# Altium integrated library ISSI SRAM Synchronous SRAM No-Wait(ZBT).IntLib: 1246 symbols (part 100 of 152)
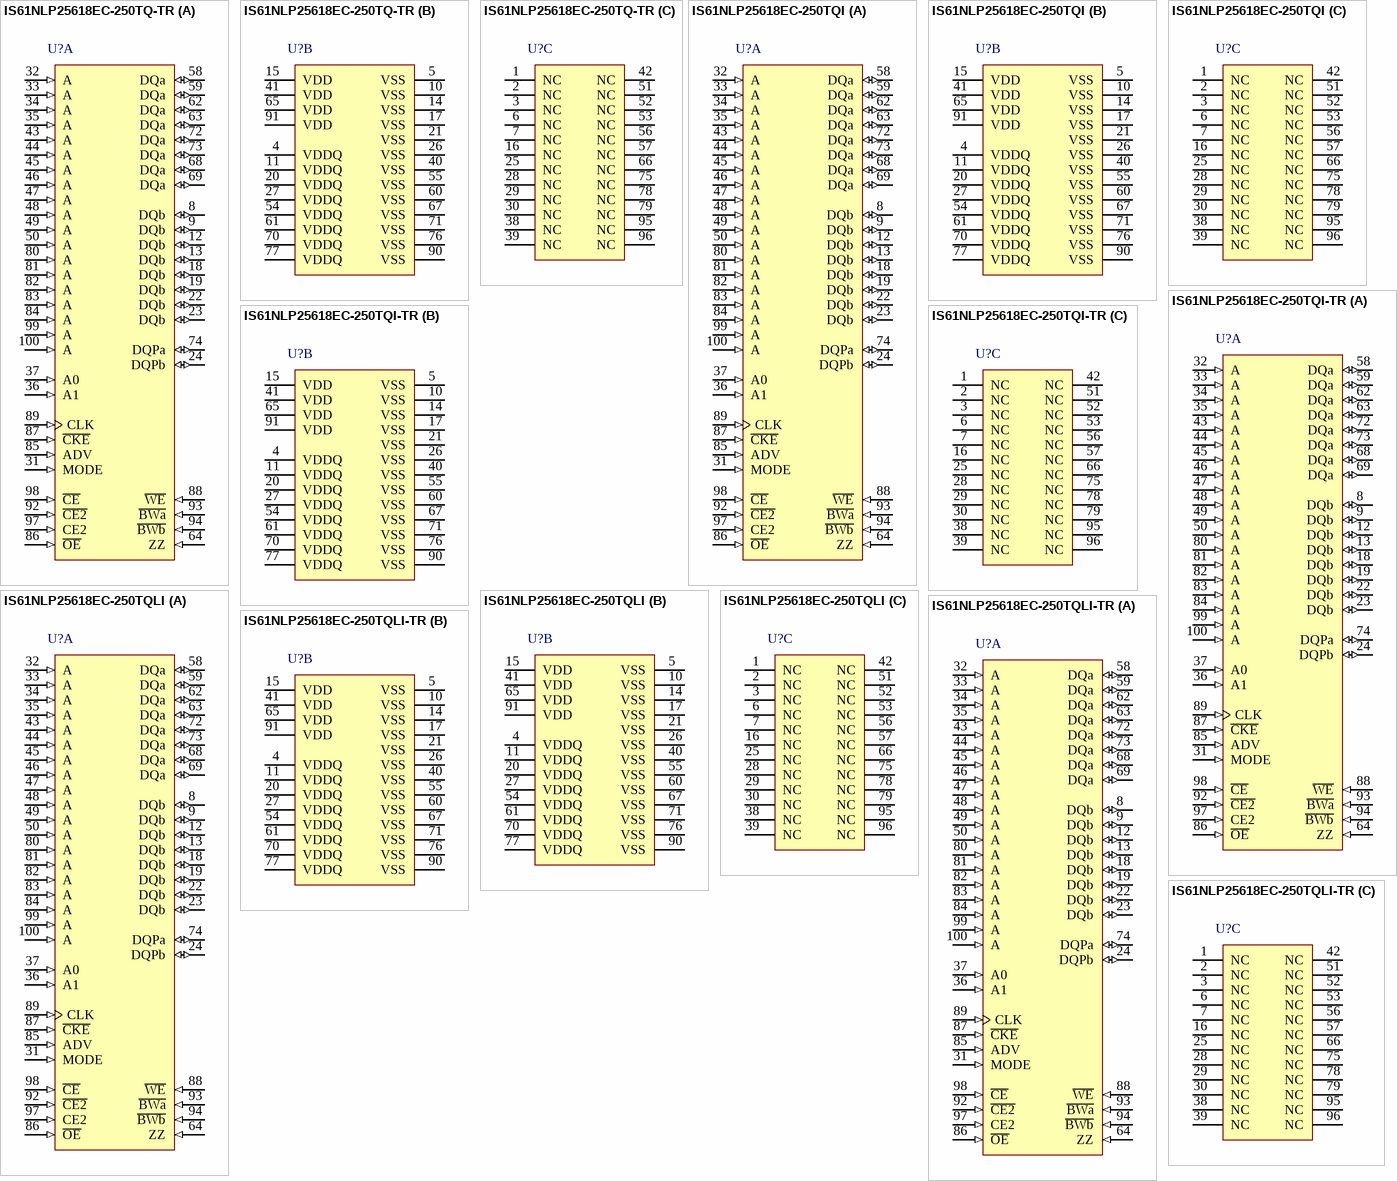
[diagram p288: symbols IS61NLP25618EC-250TQ-TR to IS61NLP25618EC-250TQLI-TR]

## IS61NLP25618EC-250TQ-TR
designator U?
4 M Pipeline 'No Wait' State Bus Synchronous SRAM with ECC, 256 K x 18, 0 to 70 degC, 100-Pin QFP (TQFP-100); Manufacturer: Integrated Silicon Solution Inc (ISSI); PartNumber: IS61NLP25618EC-250TQ-TR; Density: 4M; Packing: Tape & Reel; Vcc: 3.3 V; VccQ: 2.5 / 3.3 V; DatasheetVersion: Rev. A; PackageVersion: Rev. F, 09/2009; PackageReference: TQFP-100; PackageDescription: 100-Pin 20 x 14 mm LQFP, Pitch 0.65 mm; Organization: 256Kx18; Mounting Technology: Surface Mount; ComponentLink1Description: Manufacturer URL; ComponentLink1URL: http://www.issi.com/US/index.shtml; ComponentLink2Description: Datasheet; ComponentLink2URL: http://www.issi.com/WW/pdf/61-64NLP_NVP12832EC-12836EC-25618EC.pdf; ComponentLink3Description: Package Specification; ComponentLink3URL: http://www.issi.com/WW/pdf/61VPS_LPS25636A_51218A.pdf
footprint ISSI-TQFP-100-20000X14000DE_N (QFP, 100-Leads, Body 20x14mm, Pitch 0.65mm, IPC Medium Density)
part A pins: 8 DQb (io) "Synchronous Data Input/Output", 9 DQb (io) "Synchronous Data Input/Output", 12 DQb (io) "Synchronous Data Input/Output", 13 DQb (io) "Synchronous Data Input/Output", 18 DQb (io) "Synchronous Data Input/Output", 19 DQb (io) "Synchronous Data Input/Output", 22 DQb (io) "Synchronous Data Input/Output", 23 DQb (io) "Synchronous Data Input/Output", 24 DQPb (io) "Parity Data I/O", 31 MODE (in) "Burst Sequence Selection", 32 A (in) "Synchronous Address Input", 33 A (in) "Synchronous Address Input", 34 A (in) "Synchronous Address Input", 35 A (in) "Synchronous Address Input", 36 A1 (in) "Synchronous Address Input. These pins must tied to the two LSBs of the address bus.", 37 A0 (in) "Synchronous Address Input. These pins must tied to the two LSBs of the address bus.", 43 A (in) "Synchronous Address Input", 44 A (in) "Synchronous Address Input", 45 A (in) "Synchronous Address Input", 46 A (in) "Synchronous Address Input", 47 A (in) "Synchronous Address Input", 48 A (in) "Synchronous Address Input", 49 A (in) "Synchronous Address Input", 50 A (in) "Synchronous Address Input", 58 DQa (io) "Synchronous Data Input/Output", 59 DQa (io) "Synchronous Data Input/Output", 62 DQa (io) "Synchronous Data Input/Output", 63 DQa (io) "Synchronous Data Input/Output", 64 ZZ (in) "Snooze Enable", 68 DQa (io) "Synchronous Data Input/Output", 69 DQa (io) "Synchronous Data Input/Output", 72 DQa (io) "Synchronous Data Input/Output", 73 DQa (io) "Synchronous Data Input/Output", 74 DQPa (io) "Parity Data I/O", 80 A (in) "Synchronous Address Input", 81 A (in) "Synchronous Address Input", 82 A (in) "Synchronous Address Input", 83 A (in) "Synchronous Address Input", 84 A (in) "Synchronous Address Input", 85 ADV (in) "Synchronous Burst Address Advance", 86 ~{OE} (in) "Output Enable", 87 ~{CKE} (in) "Clock Enable", 88 ~{WE} (in) "Write Enable", 89 CLK (in) "Synchronous Clock", 92 ~{CE2} (in) "Synchronous Chip Enable", 93 ~{BWa} (in) "Synchronous Byte Write Enable", 94 ~{BWb} (in) "Synchronous Byte Write Enable", 97 CE2 (in) "Synchronous Chip Enable", 98 ~{CE} (in) "Synchronous Chip Enable", 99 A (in) "Synchronous Address Input", 100 A (in) "Synchronous Address Input"
part B pins: 4 VDDQ (power) "Isolated Output Buffer Supply: +3.3V/2.5V", 5 VSS (power), 10 VSS (power), 11 VDDQ (power) "Isolated Output Buffer Supply: +3.3V/2.5V", 14 VSS (power), 15 VDD (power) "+3.3V/2.5V Power Supply", 17 VSS (power), 20 VDDQ (power) "Isolated Output Buffer Supply: +3.3V/2.5V", 21 VSS (power), 26 VSS (power), 27 VDDQ (power) "Isolated Output Buffer Supply: +3.3V/2.5V", 40 VSS (power), 41 VDD (power) "+3.3V/2.5V Power Supply", 54 VDDQ (power) "Isolated Output Buffer Supply: +3.3V/2.5V", 55 VSS (power), 60 VSS (power), 61 VDDQ (power) "Isolated Output Buffer Supply: +3.3V/2.5V", 65 VDD (power) "+3.3V/2.5V Power Supply", 67 VSS (power), 70 VDDQ (power) "Isolated Output Buffer Supply: +3.3V/2.5V", 71 VSS (power), 76 VSS (power), 77 VDDQ (power) "Isolated Output Buffer Supply: +3.3V/2.5V", 90 VSS (power), 91 VDD (power) "+3.3V/2.5V Power Supply"
part C pins: 1 NC "Not Connected", 2 NC "Not Connected", 3 NC "Not Connected", 6 NC "Not Connected", 7 NC "Not Connected", 16 NC "Not Connected", 25 NC "Not Connected", 28 NC "Not Connected", 29 NC "Not Connected", 30 NC "Not Connected", 38 NC "Not Connected", 39 NC "Not Connected", 42 NC "Not Connected", 51 NC "Not Connected", 52 NC "Not Connected", 53 NC "Not Connected", 56 NC "Not Connected", 57 NC "Not Connected", 66 NC "Not Connected", 75 NC "Not Connected", 78 NC "Not Connected", 79 NC "Not Connected", 95 NC "Not Connected", 96 NC "Not Connected"

## IS61NLP25618EC-250TQI
designator U?
4 M Pipeline 'No Wait' State Bus Synchronous SRAM with ECC, 256 K x 18, -40 to 85 degC, 100-Pin QFP (TQFP-100); Manufacturer: Integrated Silicon Solution Inc (ISSI); PartNumber: IS61NLP25618EC-250TQI; Density: 4M; Packing: Tray / Tube; Vcc: 3.3 V; VccQ: 2.5 / 3.3 V; DatasheetVersion: Rev. A; PackageVersion: Rev. F, 09/2009; PackageReference: TQFP-100; PackageDescription: 100-Pin 20 x 14 mm LQFP, Pitch 0.65 mm; Organization: 256Kx18; Mounting Technology: Surface Mount; ComponentLink1Description: Manufacturer URL; ComponentLink1URL: http://www.issi.com/US/index.shtml; ComponentLink2Description: Datasheet; ComponentLink2URL: http://www.issi.com/WW/pdf/61-64NLP_NVP12832EC-12836EC-25618EC.pdf; ComponentLink3Description: Package Specification; ComponentLink3URL: http://www.issi.com/WW/pdf/61VPS_LPS25636A_51218A.pdf
footprint ISSI-TQFP-100-20000X14000DE_N (QFP, 100-Leads, Body 20x14mm, Pitch 0.65mm, IPC Medium Density)
part A pins: 8 DQb (io) "Synchronous Data Input/Output", 9 DQb (io) "Synchronous Data Input/Output", 12 DQb (io) "Synchronous Data Input/Output", 13 DQb (io) "Synchronous Data Input/Output", 18 DQb (io) "Synchronous Data Input/Output", 19 DQb (io) "Synchronous Data Input/Output", 22 DQb (io) "Synchronous Data Input/Output", 23 DQb (io) "Synchronous Data Input/Output", 24 DQPb (io) "Parity Data I/O", 31 MODE (in) "Burst Sequence Selection", 32 A (in) "Synchronous Address Input", 33 A (in) "Synchronous Address Input", 34 A (in) "Synchronous Address Input", 35 A (in) "Synchronous Address Input", 36 A1 (in) "Synchronous Address Input. These pins must tied to the two LSBs of the address bus.", 37 A0 (in) "Synchronous Address Input. These pins must tied to the two LSBs of the address bus.", 43 A (in) "Synchronous Address Input", 44 A (in) "Synchronous Address Input", 45 A (in) "Synchronous Address Input", 46 A (in) "Synchronous Address Input", 47 A (in) "Synchronous Address Input", 48 A (in) "Synchronous Address Input", 49 A (in) "Synchronous Address Input", 50 A (in) "Synchronous Address Input", 58 DQa (io) "Synchronous Data Input/Output", 59 DQa (io) "Synchronous Data Input/Output", 62 DQa (io) "Synchronous Data Input/Output", 63 DQa (io) "Synchronous Data Input/Output", 64 ZZ (in) "Snooze Enable", 68 DQa (io) "Synchronous Data Input/Output", 69 DQa (io) "Synchronous Data Input/Output", 72 DQa (io) "Synchronous Data Input/Output", 73 DQa (io) "Synchronous Data Input/Output", 74 DQPa (io) "Parity Data I/O", 80 A (in) "Synchronous Address Input", 81 A (in) "Synchronous Address Input", 82 A (in) "Synchronous Address Input", 83 A (in) "Synchronous Address Input", 84 A (in) "Synchronous Address Input", 85 ADV (in) "Synchronous Burst Address Advance", 86 ~{OE} (in) "Output Enable", 87 ~{CKE} (in) "Clock Enable", 88 ~{WE} (in) "Write Enable", 89 CLK (in) "Synchronous Clock", 92 ~{CE2} (in) "Synchronous Chip Enable", 93 ~{BWa} (in) "Synchronous Byte Write Enable", 94 ~{BWb} (in) "Synchronous Byte Write Enable", 97 CE2 (in) "Synchronous Chip Enable", 98 ~{CE} (in) "Synchronous Chip Enable", 99 A (in) "Synchronous Address Input", 100 A (in) "Synchronous Address Input"
part B pins: 4 VDDQ (power) "Isolated Output Buffer Supply: +3.3V/2.5V", 5 VSS (power), 10 VSS (power), 11 VDDQ (power) "Isolated Output Buffer Supply: +3.3V/2.5V", 14 VSS (power), 15 VDD (power) "+3.3V/2.5V Power Supply", 17 VSS (power), 20 VDDQ (power) "Isolated Output Buffer Supply: +3.3V/2.5V", 21 VSS (power), 26 VSS (power), 27 VDDQ (power) "Isolated Output Buffer Supply: +3.3V/2.5V", 40 VSS (power), 41 VDD (power) "+3.3V/2.5V Power Supply", 54 VDDQ (power) "Isolated Output Buffer Supply: +3.3V/2.5V", 55 VSS (power), 60 VSS (power), 61 VDDQ (power) "Isolated Output Buffer Supply: +3.3V/2.5V", 65 VDD (power) "+3.3V/2.5V Power Supply", 67 VSS (power), 70 VDDQ (power) "Isolated Output Buffer Supply: +3.3V/2.5V", 71 VSS (power), 76 VSS (power), 77 VDDQ (power) "Isolated Output Buffer Supply: +3.3V/2.5V", 90 VSS (power), 91 VDD (power) "+3.3V/2.5V Power Supply"
part C pins: 1 NC "Not Connected", 2 NC "Not Connected", 3 NC "Not Connected", 6 NC "Not Connected", 7 NC "Not Connected", 16 NC "Not Connected", 25 NC "Not Connected", 28 NC "Not Connected", 29 NC "Not Connected", 30 NC "Not Connected", 38 NC "Not Connected", 39 NC "Not Connected", 42 NC "Not Connected", 51 NC "Not Connected", 52 NC "Not Connected", 53 NC "Not Connected", 56 NC "Not Connected", 57 NC "Not Connected", 66 NC "Not Connected", 75 NC "Not Connected", 78 NC "Not Connected", 79 NC "Not Connected", 95 NC "Not Connected", 96 NC "Not Connected"

## IS61NLP25618EC-250TQI-TR
designator U?
4 M Pipeline 'No Wait' State Bus Synchronous SRAM with ECC, 256 K x 18, -40 to 85 degC, 100-Pin QFP (TQFP-100); Manufacturer: Integrated Silicon Solution Inc (ISSI); PartNumber: IS61NLP25618EC-250TQI-TR; Density: 4M; Packing: Tape & Reel; Vcc: 3.3 V; VccQ: 2.5 / 3.3 V; DatasheetVersion: Rev. A; PackageVersion: Rev. F, 09/2009; PackageReference: TQFP-100; PackageDescription: 100-Pin 20 x 14 mm LQFP, Pitch 0.65 mm; Organization: 256Kx18; Mounting Technology: Surface Mount; ComponentLink1Description: Manufacturer URL; ComponentLink1URL: http://www.issi.com/US/index.shtml; ComponentLink2Description: Datasheet; ComponentLink2URL: http://www.issi.com/WW/pdf/61-64NLP_NVP12832EC-12836EC-25618EC.pdf; ComponentLink3Description: Package Specification; ComponentLink3URL: http://www.issi.com/WW/pdf/61VPS_LPS25636A_51218A.pdf
footprint ISSI-TQFP-100-20000X14000DE_N (QFP, 100-Leads, Body 20x14mm, Pitch 0.65mm, IPC Medium Density)
part A pins: 8 DQb (io) "Synchronous Data Input/Output", 9 DQb (io) "Synchronous Data Input/Output", 12 DQb (io) "Synchronous Data Input/Output", 13 DQb (io) "Synchronous Data Input/Output", 18 DQb (io) "Synchronous Data Input/Output", 19 DQb (io) "Synchronous Data Input/Output", 22 DQb (io) "Synchronous Data Input/Output", 23 DQb (io) "Synchronous Data Input/Output", 24 DQPb (io) "Parity Data I/O", 31 MODE (in) "Burst Sequence Selection", 32 A (in) "Synchronous Address Input", 33 A (in) "Synchronous Address Input", 34 A (in) "Synchronous Address Input", 35 A (in) "Synchronous Address Input", 36 A1 (in) "Synchronous Address Input. These pins must tied to the two LSBs of the address bus.", 37 A0 (in) "Synchronous Address Input. These pins must tied to the two LSBs of the address bus.", 43 A (in) "Synchronous Address Input", 44 A (in) "Synchronous Address Input", 45 A (in) "Synchronous Address Input", 46 A (in) "Synchronous Address Input", 47 A (in) "Synchronous Address Input", 48 A (in) "Synchronous Address Input", 49 A (in) "Synchronous Address Input", 50 A (in) "Synchronous Address Input", 58 DQa (io) "Synchronous Data Input/Output", 59 DQa (io) "Synchronous Data Input/Output", 62 DQa (io) "Synchronous Data Input/Output", 63 DQa (io) "Synchronous Data Input/Output", 64 ZZ (in) "Snooze Enable", 68 DQa (io) "Synchronous Data Input/Output", 69 DQa (io) "Synchronous Data Input/Output", 72 DQa (io) "Synchronous Data Input/Output", 73 DQa (io) "Synchronous Data Input/Output", 74 DQPa (io) "Parity Data I/O", 80 A (in) "Synchronous Address Input", 81 A (in) "Synchronous Address Input", 82 A (in) "Synchronous Address Input", 83 A (in) "Synchronous Address Input", 84 A (in) "Synchronous Address Input", 85 ADV (in) "Synchronous Burst Address Advance", 86 ~{OE} (in) "Output Enable", 87 ~{CKE} (in) "Clock Enable", 88 ~{WE} (in) "Write Enable", 89 CLK (in) "Synchronous Clock", 92 ~{CE2} (in) "Synchronous Chip Enable", 93 ~{BWa} (in) "Synchronous Byte Write Enable", 94 ~{BWb} (in) "Synchronous Byte Write Enable", 97 CE2 (in) "Synchronous Chip Enable", 98 ~{CE} (in) "Synchronous Chip Enable", 99 A (in) "Synchronous Address Input", 100 A (in) "Synchronous Address Input"
part B pins: 4 VDDQ (power) "Isolated Output Buffer Supply: +3.3V/2.5V", 5 VSS (power), 10 VSS (power), 11 VDDQ (power) "Isolated Output Buffer Supply: +3.3V/2.5V", 14 VSS (power), 15 VDD (power) "+3.3V/2.5V Power Supply", 17 VSS (power), 20 VDDQ (power) "Isolated Output Buffer Supply: +3.3V/2.5V", 21 VSS (power), 26 VSS (power), 27 VDDQ (power) "Isolated Output Buffer Supply: +3.3V/2.5V", 40 VSS (power), 41 VDD (power) "+3.3V/2.5V Power Supply", 54 VDDQ (power) "Isolated Output Buffer Supply: +3.3V/2.5V", 55 VSS (power), 60 VSS (power), 61 VDDQ (power) "Isolated Output Buffer Supply: +3.3V/2.5V", 65 VDD (power) "+3.3V/2.5V Power Supply", 67 VSS (power), 70 VDDQ (power) "Isolated Output Buffer Supply: +3.3V/2.5V", 71 VSS (power), 76 VSS (power), 77 VDDQ (power) "Isolated Output Buffer Supply: +3.3V/2.5V", 90 VSS (power), 91 VDD (power) "+3.3V/2.5V Power Supply"
part C pins: 1 NC "Not Connected", 2 NC "Not Connected", 3 NC "Not Connected", 6 NC "Not Connected", 7 NC "Not Connected", 16 NC "Not Connected", 25 NC "Not Connected", 28 NC "Not Connected", 29 NC "Not Connected", 30 NC "Not Connected", 38 NC "Not Connected", 39 NC "Not Connected", 42 NC "Not Connected", 51 NC "Not Connected", 52 NC "Not Connected", 53 NC "Not Connected", 56 NC "Not Connected", 57 NC "Not Connected", 66 NC "Not Connected", 75 NC "Not Connected", 78 NC "Not Connected", 79 NC "Not Connected", 95 NC "Not Connected", 96 NC "Not Connected"

## IS61NLP25618EC-250TQLI
designator U?
4 M Pipeline 'No Wait' State Bus Synchronous SRAM with ECC, 256 K x 18, -40 to 85 degC, 100-Pin QFP (TQFP-100), Pb-Free; Manufacturer: Integrated Silicon Solution Inc (ISSI); PartNumber: IS61NLP25618EC-250TQLI; Density: 4M; Packing: Tray / Tube; Vcc: 3.3 V; VccQ: 2.5 / 3.3 V; DatasheetVersion: Rev. A; PackageVersion: Rev. F, 09/2009; PackageReference: TQFP-100; PackageDescription: 100-Pin 20 x 14 mm LQFP, Pitch 0.65 mm; Organization: 256Kx18; RoHS: Pb-Free; Mounting Technology: Surface Mount; ComponentLink1Description: Manufacturer URL; ComponentLink1URL: http://www.issi.com/US/index.shtml; ComponentLink2Description: Datasheet; ComponentLink2URL: http://www.issi.com/WW/pdf/61-64NLP_NVP12832EC-12836EC-25618EC.pdf; ComponentLink3Description: Package Specification; ComponentLink3URL: http://www.issi.com/WW/pdf/61VPS_LPS25636A_51218A.pdf
footprint ISSI-TQFP-100-20000X14000DE_N (QFP, 100-Leads, Body 20x14mm, Pitch 0.65mm, IPC Medium Density)
part A pins: 8 DQb (io) "Synchronous Data Input/Output", 9 DQb (io) "Synchronous Data Input/Output", 12 DQb (io) "Synchronous Data Input/Output", 13 DQb (io) "Synchronous Data Input/Output", 18 DQb (io) "Synchronous Data Input/Output", 19 DQb (io) "Synchronous Data Input/Output", 22 DQb (io) "Synchronous Data Input/Output", 23 DQb (io) "Synchronous Data Input/Output", 24 DQPb (io) "Parity Data I/O", 31 MODE (in) "Burst Sequence Selection", 32 A (in) "Synchronous Address Input", 33 A (in) "Synchronous Address Input", 34 A (in) "Synchronous Address Input", 35 A (in) "Synchronous Address Input", 36 A1 (in) "Synchronous Address Input. These pins must tied to the two LSBs of the address bus.", 37 A0 (in) "Synchronous Address Input. These pins must tied to the two LSBs of the address bus.", 43 A (in) "Synchronous Address Input", 44 A (in) "Synchronous Address Input", 45 A (in) "Synchronous Address Input", 46 A (in) "Synchronous Address Input", 47 A (in) "Synchronous Address Input", 48 A (in) "Synchronous Address Input", 49 A (in) "Synchronous Address Input", 50 A (in) "Synchronous Address Input", 58 DQa (io) "Synchronous Data Input/Output", 59 DQa (io) "Synchronous Data Input/Output", 62 DQa (io) "Synchronous Data Input/Output", 63 DQa (io) "Synchronous Data Input/Output", 64 ZZ (in) "Snooze Enable", 68 DQa (io) "Synchronous Data Input/Output", 69 DQa (io) "Synchronous Data Input/Output", 72 DQa (io) "Synchronous Data Input/Output", 73 DQa (io) "Synchronous Data Input/Output", 74 DQPa (io) "Parity Data I/O", 80 A (in) "Synchronous Address Input", 81 A (in) "Synchronous Address Input", 82 A (in) "Synchronous Address Input", 83 A (in) "Synchronous Address Input", 84 A (in) "Synchronous Address Input", 85 ADV (in) "Synchronous Burst Address Advance", 86 ~{OE} (in) "Output Enable", 87 ~{CKE} (in) "Clock Enable", 88 ~{WE} (in) "Write Enable", 89 CLK (in) "Synchronous Clock", 92 ~{CE2} (in) "Synchronous Chip Enable", 93 ~{BWa} (in) "Synchronous Byte Write Enable", 94 ~{BWb} (in) "Synchronous Byte Write Enable", 97 CE2 (in) "Synchronous Chip Enable", 98 ~{CE} (in) "Synchronous Chip Enable", 99 A (in) "Synchronous Address Input", 100 A (in) "Synchronous Address Input"
part B pins: 4 VDDQ (power) "Isolated Output Buffer Supply: +3.3V/2.5V", 5 VSS (power), 10 VSS (power), 11 VDDQ (power) "Isolated Output Buffer Supply: +3.3V/2.5V", 14 VSS (power), 15 VDD (power) "+3.3V/2.5V Power Supply", 17 VSS (power), 20 VDDQ (power) "Isolated Output Buffer Supply: +3.3V/2.5V", 21 VSS (power), 26 VSS (power), 27 VDDQ (power) "Isolated Output Buffer Supply: +3.3V/2.5V", 40 VSS (power), 41 VDD (power) "+3.3V/2.5V Power Supply", 54 VDDQ (power) "Isolated Output Buffer Supply: +3.3V/2.5V", 55 VSS (power), 60 VSS (power), 61 VDDQ (power) "Isolated Output Buffer Supply: +3.3V/2.5V", 65 VDD (power) "+3.3V/2.5V Power Supply", 67 VSS (power), 70 VDDQ (power) "Isolated Output Buffer Supply: +3.3V/2.5V", 71 VSS (power), 76 VSS (power), 77 VDDQ (power) "Isolated Output Buffer Supply: +3.3V/2.5V", 90 VSS (power), 91 VDD (power) "+3.3V/2.5V Power Supply"
part C pins: 1 NC "Not Connected", 2 NC "Not Connected", 3 NC "Not Connected", 6 NC "Not Connected", 7 NC "Not Connected", 16 NC "Not Connected", 25 NC "Not Connected", 28 NC "Not Connected", 29 NC "Not Connected", 30 NC "Not Connected", 38 NC "Not Connected", 39 NC "Not Connected", 42 NC "Not Connected", 51 NC "Not Connected", 52 NC "Not Connected", 53 NC "Not Connected", 56 NC "Not Connected", 57 NC "Not Connected", 66 NC "Not Connected", 75 NC "Not Connected", 78 NC "Not Connected", 79 NC "Not Connected", 95 NC "Not Connected", 96 NC "Not Connected"

## IS61NLP25618EC-250TQLI-TR
designator U?
4 M Pipeline 'No Wait' State Bus Synchronous SRAM with ECC, 256 K x 18, -40 to 85 degC, 100-Pin QFP (TQFP-100), Pb-Free; Manufacturer: Integrated Silicon Solution Inc (ISSI); PartNumber: IS61NLP25618EC-250TQLI-TR; Density: 4M; Packing: Tape & Reel; Vcc: 3.3 V; VccQ: 2.5 / 3.3 V; DatasheetVersion: Rev. A; PackageVersion: Rev. F, 09/2009; PackageReference: TQFP-100; PackageDescription: 100-Pin 20 x 14 mm LQFP, Pitch 0.65 mm; Organization: 256Kx18; RoHS: Pb-Free; Mounting Technology: Surface Mount; ComponentLink1Description: Manufacturer URL; ComponentLink1URL: http://www.issi.com/US/index.shtml; ComponentLink2Description: Datasheet; ComponentLink2URL: http://www.issi.com/WW/pdf/61-64NLP_NVP12832EC-12836EC-25618EC.pdf; ComponentLink3Description: Package Specification; ComponentLink3URL: http://www.issi.com/WW/pdf/61VPS_LPS25636A_51218A.pdf
footprint ISSI-TQFP-100-20000X14000DE_N (QFP, 100-Leads, Body 20x14mm, Pitch 0.65mm, IPC Medium Density)
part A pins: 8 DQb (io) "Synchronous Data Input/Output", 9 DQb (io) "Synchronous Data Input/Output", 12 DQb (io) "Synchronous Data Input/Output", 13 DQb (io) "Synchronous Data Input/Output", 18 DQb (io) "Synchronous Data Input/Output", 19 DQb (io) "Synchronous Data Input/Output", 22 DQb (io) "Synchronous Data Input/Output", 23 DQb (io) "Synchronous Data Input/Output", 24 DQPb (io) "Parity Data I/O", 31 MODE (in) "Burst Sequence Selection", 32 A (in) "Synchronous Address Input", 33 A (in) "Synchronous Address Input", 34 A (in) "Synchronous Address Input", 35 A (in) "Synchronous Address Input", 36 A1 (in) "Synchronous Address Input. These pins must tied to the two LSBs of the address bus.", 37 A0 (in) "Synchronous Address Input. These pins must tied to the two LSBs of the address bus.", 43 A (in) "Synchronous Address Input", 44 A (in) "Synchronous Address Input", 45 A (in) "Synchronous Address Input", 46 A (in) "Synchronous Address Input", 47 A (in) "Synchronous Address Input", 48 A (in) "Synchronous Address Input", 49 A (in) "Synchronous Address Input", 50 A (in) "Synchronous Address Input", 58 DQa (io) "Synchronous Data Input/Output", 59 DQa (io) "Synchronous Data Input/Output", 62 DQa (io) "Synchronous Data Input/Output", 63 DQa (io) "Synchronous Data Input/Output", 64 ZZ (in) "Snooze Enable", 68 DQa (io) "Synchronous Data Input/Output", 69 DQa (io) "Synchronous Data Input/Output", 72 DQa (io) "Synchronous Data Input/Output", 73 DQa (io) "Synchronous Data Input/Output", 74 DQPa (io) "Parity Data I/O", 80 A (in) "Synchronous Address Input", 81 A (in) "Synchronous Address Input", 82 A (in) "Synchronous Address Input", 83 A (in) "Synchronous Address Input", 84 A (in) "Synchronous Address Input", 85 ADV (in) "Synchronous Burst Address Advance", 86 ~{OE} (in) "Output Enable", 87 ~{CKE} (in) "Clock Enable", 88 ~{WE} (in) "Write Enable", 89 CLK (in) "Synchronous Clock", 92 ~{CE2} (in) "Synchronous Chip Enable", 93 ~{BWa} (in) "Synchronous Byte Write Enable", 94 ~{BWb} (in) "Synchronous Byte Write Enable", 97 CE2 (in) "Synchronous Chip Enable", 98 ~{CE} (in) "Synchronous Chip Enable", 99 A (in) "Synchronous Address Input", 100 A (in) "Synchronous Address Input"
part B pins: 4 VDDQ (power) "Isolated Output Buffer Supply: +3.3V/2.5V", 5 VSS (power), 10 VSS (power), 11 VDDQ (power) "Isolated Output Buffer Supply: +3.3V/2.5V", 14 VSS (power), 15 VDD (power) "+3.3V/2.5V Power Supply", 17 VSS (power), 20 VDDQ (power) "Isolated Output Buffer Supply: +3.3V/2.5V", 21 VSS (power), 26 VSS (power), 27 VDDQ (power) "Isolated Output Buffer Supply: +3.3V/2.5V", 40 VSS (power), 41 VDD (power) "+3.3V/2.5V Power Supply", 54 VDDQ (power) "Isolated Output Buffer Supply: +3.3V/2.5V", 55 VSS (power), 60 VSS (power), 61 VDDQ (power) "Isolated Output Buffer Supply: +3.3V/2.5V", 65 VDD (power) "+3.3V/2.5V Power Supply", 67 VSS (power), 70 VDDQ (power) "Isolated Output Buffer Supply: +3.3V/2.5V", 71 VSS (power), 76 VSS (power), 77 VDDQ (power) "Isolated Output Buffer Supply: +3.3V/2.5V", 90 VSS (power), 91 VDD (power) "+3.3V/2.5V Power Supply"
part C pins: 1 NC "Not Connected", 2 NC "Not Connected", 3 NC "Not Connected", 6 NC "Not Connected", 7 NC "Not Connected", 16 NC "Not Connected", 25 NC "Not Connected", 28 NC "Not Connected", 29 NC "Not Connected", 30 NC "Not Connected", 38 NC "Not Connected", 39 NC "Not Connected", 42 NC "Not Connected", 51 NC "Not Connected", 52 NC "Not Connected", 53 NC "Not Connected", 56 NC "Not Connected", 57 NC "Not Connected", 66 NC "Not Connected", 75 NC "Not Connected", 78 NC "Not Connected", 79 NC "Not Connected", 95 NC "Not Connected", 96 NC "Not Connected"

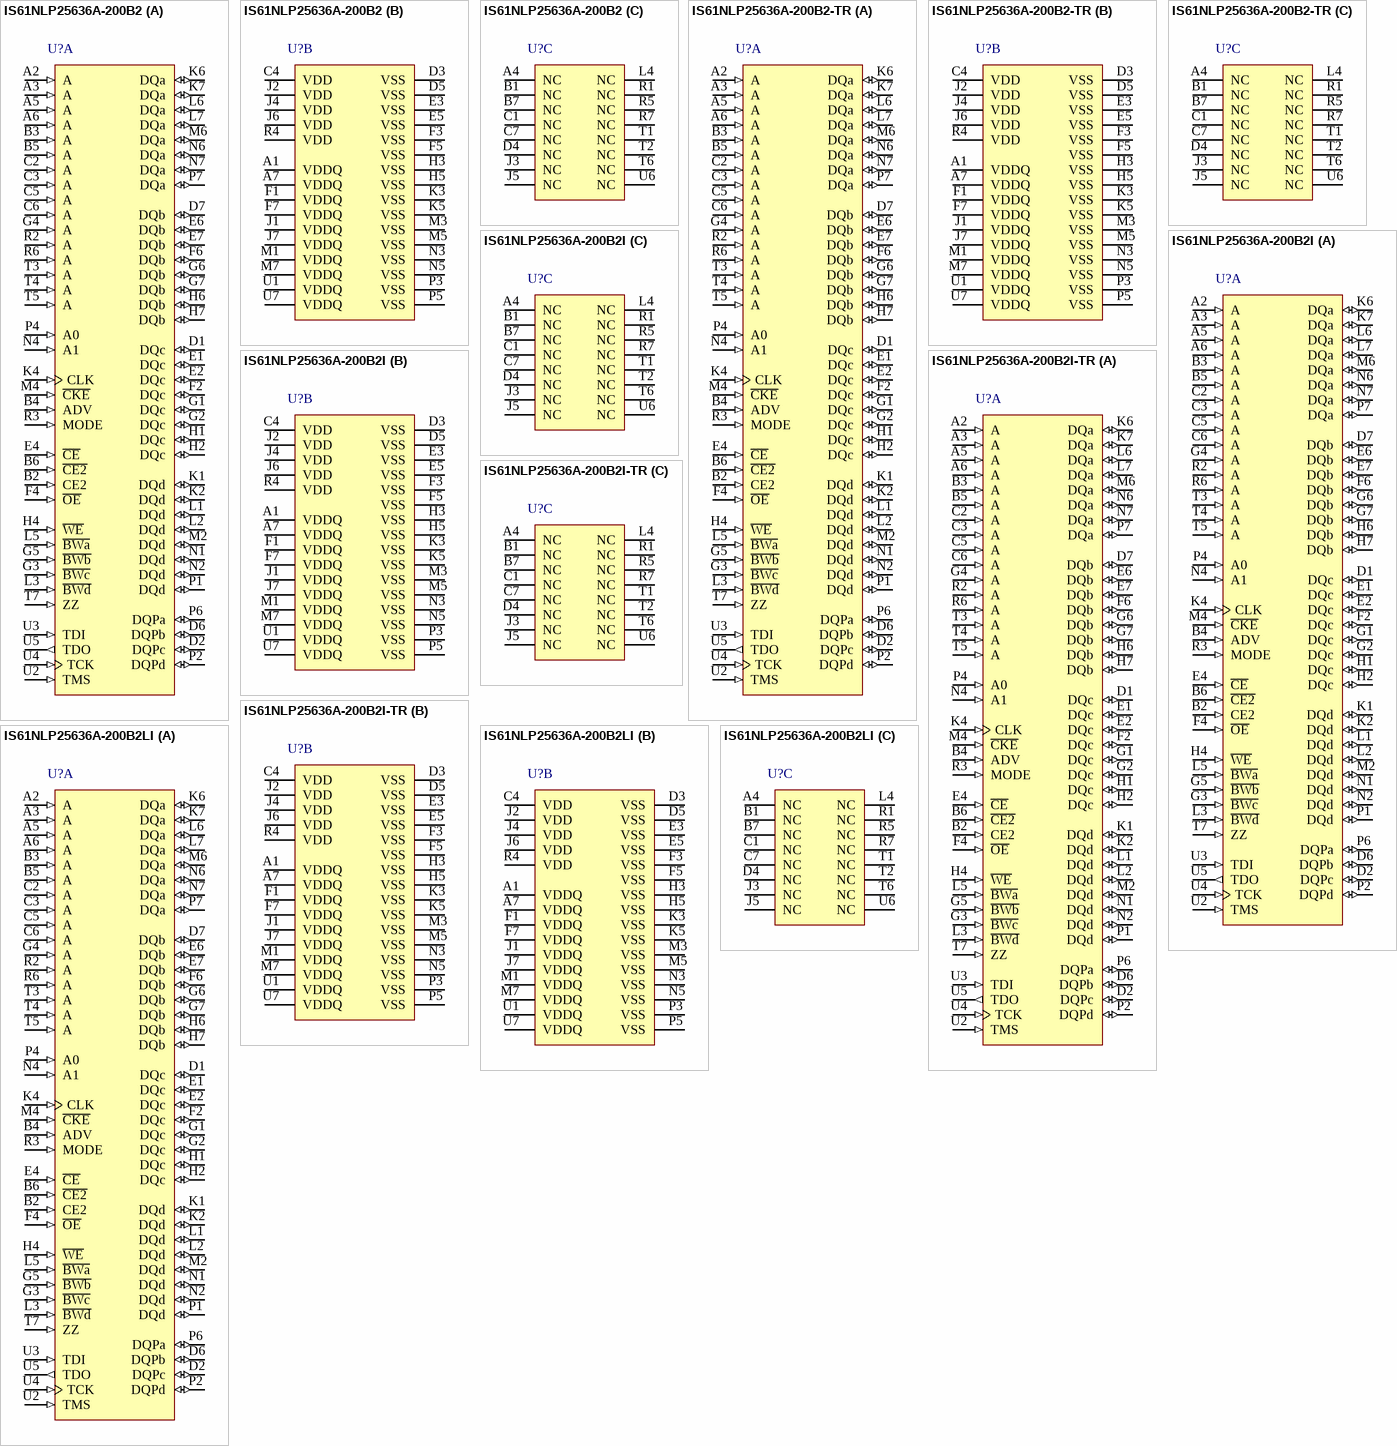
[diagram p99: symbols IS61NLP25636A-200B2 to IS61NLP25636A-200B2LI]

## IS61NLP25636A-200B2
designator U?
9 M Pipeline 'No Wait' State Bus SRAM, 256 K x 36, 0 to 70 degC, 119-Pin BGA (PBGA-119); Manufacturer: Integrated Silicon Solution Inc (ISSI); PartNumber: IS61NLP25636A-200B2; Density: 9M; Packing: Tray / Tube; Vcc: 3.3 V; VccQ: 2.5 / 3.3 V; DatasheetVersion: Rev. I; PackageVersion: Rev. D, 10/2008; PackageReference: PBGA-119; PackageDescription: 119-Pin 14 x 22 mm PBGA, Pitch 1.27 mm; Organization: 256Kx36; Mounting Technology: Surface Mount; Code_JEDEC: MS-028; ComponentLink1Description: Manufacturer URL; ComponentLink1URL: http://www.issi.com/US/index.shtml; ComponentLink2Description: Datasheet; ComponentLink2URL: http://www.issi.com/WW/pdf/61NLP_NVP25636A_51218A.pdf; ComponentLink3Description: Package Specification; ComponentLink3URL: http://www.issi.com/WW/pdf/61NLP_NVP25636A_51218A.pdf
footprint ISSI-PBGA-119-14000X22000DE (BGA, 119-Balls, Body 22x14mm, Pitch 1.27mm)
part A pins: A2 A (in) "Address Input", A3 A (in) "Address Input", A5 A (in) "Address Input", A6 A (in) "Address Input", B2 CE2 (in) "Synchronous Chip Select", B3 A (in) "Address Input", B4 ADV (in) "Synchronous Burst Address Advance/Load", B5 A (in) "Address Input", B6 ~{CE2} (in) "Synchronous Chip Select", C2 A (in) "Address Input", C3 A (in) "Address Input", C5 A (in) "Address Input", C6 A (in) "Address Input", D1 DQc (io) "Data Input/Output", D2 DQPc (io) "Parity Data I/O", D6 DQPb (io) "Parity Data I/O", D7 DQb (io) "Data Input/Output", E1 DQc (io) "Data Input/Output", E2 DQc (io) "Data Input/Output", E4 ~{CE} (in) "Synchronous Chip Select", E6 DQb (io) "Data Input/Output", E7 DQb (io) "Data Input/Output", F2 DQc (io) "Data Input/Output", F4 ~{OE} (in) "Output Enable", F6 DQb (io) "Data Input/Output", G1 DQc (io) "Data Input/Output", G2 DQc (io) "Data Input/Output", G3 ~{BWc} (in) "Synchronous Byte Write Inputs", G4 A (in) "Address Input", G5 ~{BWb} (in) "Synchronous Byte Write Inputs", G6 DQb (io) "Data Input/Output", G7 DQb (io) "Data Input/Output", H1 DQc (io) "Data Input/Output", H2 DQc (io) "Data Input/Output", H4 ~{WE} (in) "Synchronous Read/Write Control Input", H6 DQb (io) "Data Input/Output", H7 DQb (io) "Data Input/Output", K1 DQd (io) "Data Input/Output", K2 DQd (io) "Data Input/Output", K4 CLK (in) "Synchronous Clock", K6 DQa (io) "Data Input/Output", K7 DQa (io) "Data Input/Output", L1 DQd (io) "Data Input/Output", L2 DQd (io) "Data Input/Output", L3 ~{BWd} (in) "Synchronous Byte Write Inputs", L5 ~{BWa} (in) "Synchronous Byte Write Inputs", L6 DQa (io) "Data Input/Output", L7 DQa (io) "Data Input/Output", M2 DQd (io) "Data Input/Output", M4 ~{CKE} (in) "Clock Enable", M6 DQa (io) "Data Input/Output", N1 DQd (io) "Data Input/Output", N2 DQd (io) "Data Input/Output", N4 A1 (in) "Synchronous Burst Address Input", N6 DQa (io) "Data Input/Output", N7 DQa (io) "Data Input/Output", P1 DQd (io) "Data Input/Output", P2 DQPd (io) "Parity Data I/O", P4 A0 (in) "Synchronous Burst Address Input", P6 DQPa (io) "Parity Data I/O", P7 DQa (io) "Data Input/Output", R2 A (in) "Address Input", R3 MODE (in) "Burst Sequence Selection", R6 A (in) "Address Input", T3 A (in) "Address Input", T4 A (in) "Address Input", T5 A (in) "Address Input", T7 ZZ (in) "Power Sleep Mode", U2 TMS (in) "JTAG Pin", U3 TDI (in) "JTAG Pin", U4 TCK (in) "JTAG Pin", U5 TDO (out) "JTAG Pin"
part B pins: A1 VDDQ (power) "Output Power Supply", A7 VDDQ (power) "Output Power Supply", C4 VDD (power) "Power Supply", D3 VSS (power) "Ground", D5 VSS (power) "Ground", E3 VSS (power) "Ground", E5 VSS (power) "Ground", F1 VDDQ (power) "Output Power Supply", F3 VSS (power) "Ground", F5 VSS (power) "Ground", F7 VDDQ (power) "Output Power Supply", H3 VSS (power) "Ground", H5 VSS (power) "Ground", J1 VDDQ (power) "Output Power Supply", J2 VDD (power) "Power Supply", J4 VDD (power) "Power Supply", J6 VDD (power) "Power Supply", J7 VDDQ (power) "Output Power Supply", K3 VSS (power) "Ground", K5 VSS (power) "Ground", M1 VDDQ (power) "Output Power Supply", M3 VSS (power) "Ground", M5 VSS (power) "Ground", M7 VDDQ (power) "Output Power Supply", N3 VSS (power) "Ground", N5 VSS (power) "Ground", P3 VSS (power) "Ground", P5 VSS (power) "Ground", R4 VDD (power) "Power Supply", U1 VDDQ (power) "Output Power Supply", U7 VDDQ (power) "Output Power Supply"
part C pins: A4 NC "No Connect", B1 NC "No Connect", B7 NC "No Connect", C1 NC "No Connect", C7 NC "No Connect", D4 NC "No Connect", J3 NC "No Connect", J5 NC "No Connect", L4 NC "No Connect", R1 NC "No Connect", R5 NC "No Connect", R7 NC "No Connect", T1 NC "No Connect", T2 NC "No Connect", T6 NC "No Connect", U6 NC "No Connect"

## IS61NLP25636A-200B2-TR
designator U?
9 M Pipeline 'No Wait' State Bus SRAM, 256 K x 36, 0 to 70 degC, 119-Pin BGA (PBGA-119); Manufacturer: Integrated Silicon Solution Inc (ISSI); PartNumber: IS61NLP25636A-200B2-TR; Density: 9M; Packing: Tape & Reel; Vcc: 3.3 V; VccQ: 2.5 / 3.3 V; DatasheetVersion: Rev. I; PackageVersion: Rev. D, 10/2008; PackageReference: PBGA-119; PackageDescription: 119-Pin 14 x 22 mm PBGA, Pitch 1.27 mm; Organization: 256Kx36; Mounting Technology: Surface Mount; Code_JEDEC: MS-028; ComponentLink1Description: Manufacturer URL; ComponentLink1URL: http://www.issi.com/US/index.shtml; ComponentLink2Description: Datasheet; ComponentLink2URL: http://www.issi.com/WW/pdf/61NLP_NVP25636A_51218A.pdf; ComponentLink3Description: Package Specification; ComponentLink3URL: http://www.issi.com/WW/pdf/61NLP_NVP25636A_51218A.pdf
footprint ISSI-PBGA-119-14000X22000DE (BGA, 119-Balls, Body 22x14mm, Pitch 1.27mm)
part A pins: A2 A (in) "Address Input", A3 A (in) "Address Input", A5 A (in) "Address Input", A6 A (in) "Address Input", B2 CE2 (in) "Synchronous Chip Select", B3 A (in) "Address Input", B4 ADV (in) "Synchronous Burst Address Advance/Load", B5 A (in) "Address Input", B6 ~{CE2} (in) "Synchronous Chip Select", C2 A (in) "Address Input", C3 A (in) "Address Input", C5 A (in) "Address Input", C6 A (in) "Address Input", D1 DQc (io) "Data Input/Output", D2 DQPc (io) "Parity Data I/O", D6 DQPb (io) "Parity Data I/O", D7 DQb (io) "Data Input/Output", E1 DQc (io) "Data Input/Output", E2 DQc (io) "Data Input/Output", E4 ~{CE} (in) "Synchronous Chip Select", E6 DQb (io) "Data Input/Output", E7 DQb (io) "Data Input/Output", F2 DQc (io) "Data Input/Output", F4 ~{OE} (in) "Output Enable", F6 DQb (io) "Data Input/Output", G1 DQc (io) "Data Input/Output", G2 DQc (io) "Data Input/Output", G3 ~{BWc} (in) "Synchronous Byte Write Inputs", G4 A (in) "Address Input", G5 ~{BWb} (in) "Synchronous Byte Write Inputs", G6 DQb (io) "Data Input/Output", G7 DQb (io) "Data Input/Output", H1 DQc (io) "Data Input/Output", H2 DQc (io) "Data Input/Output", H4 ~{WE} (in) "Synchronous Read/Write Control Input", H6 DQb (io) "Data Input/Output", H7 DQb (io) "Data Input/Output", K1 DQd (io) "Data Input/Output", K2 DQd (io) "Data Input/Output", K4 CLK (in) "Synchronous Clock", K6 DQa (io) "Data Input/Output", K7 DQa (io) "Data Input/Output", L1 DQd (io) "Data Input/Output", L2 DQd (io) "Data Input/Output", L3 ~{BWd} (in) "Synchronous Byte Write Inputs", L5 ~{BWa} (in) "Synchronous Byte Write Inputs", L6 DQa (io) "Data Input/Output", L7 DQa (io) "Data Input/Output", M2 DQd (io) "Data Input/Output", M4 ~{CKE} (in) "Clock Enable", M6 DQa (io) "Data Input/Output", N1 DQd (io) "Data Input/Output", N2 DQd (io) "Data Input/Output", N4 A1 (in) "Synchronous Burst Address Input", N6 DQa (io) "Data Input/Output", N7 DQa (io) "Data Input/Output", P1 DQd (io) "Data Input/Output", P2 DQPd (io) "Parity Data I/O", P4 A0 (in) "Synchronous Burst Address Input", P6 DQPa (io) "Parity Data I/O", P7 DQa (io) "Data Input/Output", R2 A (in) "Address Input", R3 MODE (in) "Burst Sequence Selection", R6 A (in) "Address Input", T3 A (in) "Address Input", T4 A (in) "Address Input", T5 A (in) "Address Input", T7 ZZ (in) "Power Sleep Mode", U2 TMS (in) "JTAG Pin", U3 TDI (in) "JTAG Pin", U4 TCK (in) "JTAG Pin", U5 TDO (out) "JTAG Pin"
part B pins: A1 VDDQ (power) "Output Power Supply", A7 VDDQ (power) "Output Power Supply", C4 VDD (power) "Power Supply", D3 VSS (power) "Ground", D5 VSS (power) "Ground", E3 VSS (power) "Ground", E5 VSS (power) "Ground", F1 VDDQ (power) "Output Power Supply", F3 VSS (power) "Ground", F5 VSS (power) "Ground", F7 VDDQ (power) "Output Power Supply", H3 VSS (power) "Ground", H5 VSS (power) "Ground", J1 VDDQ (power) "Output Power Supply", J2 VDD (power) "Power Supply", J4 VDD (power) "Power Supply", J6 VDD (power) "Power Supply", J7 VDDQ (power) "Output Power Supply", K3 VSS (power) "Ground", K5 VSS (power) "Ground", M1 VDDQ (power) "Output Power Supply", M3 VSS (power) "Ground", M5 VSS (power) "Ground", M7 VDDQ (power) "Output Power Supply", N3 VSS (power) "Ground", N5 VSS (power) "Ground", P3 VSS (power) "Ground", P5 VSS (power) "Ground", R4 VDD (power) "Power Supply", U1 VDDQ (power) "Output Power Supply", U7 VDDQ (power) "Output Power Supply"
part C pins: A4 NC "No Connect", B1 NC "No Connect", B7 NC "No Connect", C1 NC "No Connect", C7 NC "No Connect", D4 NC "No Connect", J3 NC "No Connect", J5 NC "No Connect", L4 NC "No Connect", R1 NC "No Connect", R5 NC "No Connect", R7 NC "No Connect", T1 NC "No Connect", T2 NC "No Connect", T6 NC "No Connect", U6 NC "No Connect"

## IS61NLP25636A-200B2I
designator U?
9 M Pipeline 'No Wait' State Bus SRAM, 256 K x 36, -40 to 85 degC, 119-Pin BGA (PBGA-119); Manufacturer: Integrated Silicon Solution Inc (ISSI); PartNumber: IS61NLP25636A-200B2I; Density: 9M; Packing: Tray / Tube; Vcc: 3.3 V; VccQ: 2.5 / 3.3 V; DatasheetVersion: Rev. I; PackageVersion: Rev. D, 10/2008; PackageReference: PBGA-119; PackageDescription: 119-Pin 14 x 22 mm PBGA, Pitch 1.27 mm; Supplier 1: Mouser; Supplier Part Number 1: 870-61NLP25636A2B2I; Organization: 256Kx36; Mounting Technology: Surface Mount; Code_JEDEC: MS-028; ComponentLink1Description: Manufacturer URL; ComponentLink1URL: http://www.issi.com/US/index.shtml; ComponentLink2Description: Datasheet; ComponentLink2URL: http://www.issi.com/WW/pdf/61NLP_NVP25636A_51218A.pdf; ComponentLink3Description: Package Specification; ComponentLink3URL: http://www.issi.com/WW/pdf/61NLP_NVP25636A_51218A.pdf
footprint ISSI-PBGA-119-14000X22000DE (BGA, 119-Balls, Body 22x14mm, Pitch 1.27mm)
part A pins: A2 A (in) "Address Input", A3 A (in) "Address Input", A5 A (in) "Address Input", A6 A (in) "Address Input", B2 CE2 (in) "Synchronous Chip Select", B3 A (in) "Address Input", B4 ADV (in) "Synchronous Burst Address Advance/Load", B5 A (in) "Address Input", B6 ~{CE2} (in) "Synchronous Chip Select", C2 A (in) "Address Input", C3 A (in) "Address Input", C5 A (in) "Address Input", C6 A (in) "Address Input", D1 DQc (io) "Data Input/Output", D2 DQPc (io) "Parity Data I/O", D6 DQPb (io) "Parity Data I/O", D7 DQb (io) "Data Input/Output", E1 DQc (io) "Data Input/Output", E2 DQc (io) "Data Input/Output", E4 ~{CE} (in) "Synchronous Chip Select", E6 DQb (io) "Data Input/Output", E7 DQb (io) "Data Input/Output", F2 DQc (io) "Data Input/Output", F4 ~{OE} (in) "Output Enable", F6 DQb (io) "Data Input/Output", G1 DQc (io) "Data Input/Output", G2 DQc (io) "Data Input/Output", G3 ~{BWc} (in) "Synchronous Byte Write Inputs", G4 A (in) "Address Input", G5 ~{BWb} (in) "Synchronous Byte Write Inputs", G6 DQb (io) "Data Input/Output", G7 DQb (io) "Data Input/Output", H1 DQc (io) "Data Input/Output", H2 DQc (io) "Data Input/Output", H4 ~{WE} (in) "Synchronous Read/Write Control Input", H6 DQb (io) "Data Input/Output", H7 DQb (io) "Data Input/Output", K1 DQd (io) "Data Input/Output", K2 DQd (io) "Data Input/Output", K4 CLK (in) "Synchronous Clock", K6 DQa (io) "Data Input/Output", K7 DQa (io) "Data Input/Output", L1 DQd (io) "Data Input/Output", L2 DQd (io) "Data Input/Output", L3 ~{BWd} (in) "Synchronous Byte Write Inputs", L5 ~{BWa} (in) "Synchronous Byte Write Inputs", L6 DQa (io) "Data Input/Output", L7 DQa (io) "Data Input/Output", M2 DQd (io) "Data Input/Output", M4 ~{CKE} (in) "Clock Enable", M6 DQa (io) "Data Input/Output", N1 DQd (io) "Data Input/Output", N2 DQd (io) "Data Input/Output", N4 A1 (in) "Synchronous Burst Address Input", N6 DQa (io) "Data Input/Output", N7 DQa (io) "Data Input/Output", P1 DQd (io) "Data Input/Output", P2 DQPd (io) "Parity Data I/O", P4 A0 (in) "Synchronous Burst Address Input", P6 DQPa (io) "Parity Data I/O", P7 DQa (io) "Data Input/Output", R2 A (in) "Address Input", R3 MODE (in) "Burst Sequence Selection", R6 A (in) "Address Input", T3 A (in) "Address Input", T4 A (in) "Address Input", T5 A (in) "Address Input", T7 ZZ (in) "Power Sleep Mode", U2 TMS (in) "JTAG Pin", U3 TDI (in) "JTAG Pin", U4 TCK (in) "JTAG Pin", U5 TDO (out) "JTAG Pin"
part B pins: A1 VDDQ (power) "Output Power Supply", A7 VDDQ (power) "Output Power Supply", C4 VDD (power) "Power Supply", D3 VSS (power) "Ground", D5 VSS (power) "Ground", E3 VSS (power) "Ground", E5 VSS (power) "Ground", F1 VDDQ (power) "Output Power Supply", F3 VSS (power) "Ground", F5 VSS (power) "Ground", F7 VDDQ (power) "Output Power Supply", H3 VSS (power) "Ground", H5 VSS (power) "Ground", J1 VDDQ (power) "Output Power Supply", J2 VDD (power) "Power Supply", J4 VDD (power) "Power Supply", J6 VDD (power) "Power Supply", J7 VDDQ (power) "Output Power Supply", K3 VSS (power) "Ground", K5 VSS (power) "Ground", M1 VDDQ (power) "Output Power Supply", M3 VSS (power) "Ground", M5 VSS (power) "Ground", M7 VDDQ (power) "Output Power Supply", N3 VSS (power) "Ground", N5 VSS (power) "Ground", P3 VSS (power) "Ground", P5 VSS (power) "Ground", R4 VDD (power) "Power Supply", U1 VDDQ (power) "Output Power Supply", U7 VDDQ (power) "Output Power Supply"
part C pins: A4 NC "No Connect", B1 NC "No Connect", B7 NC "No Connect", C1 NC "No Connect", C7 NC "No Connect", D4 NC "No Connect", J3 NC "No Connect", J5 NC "No Connect", L4 NC "No Connect", R1 NC "No Connect", R5 NC "No Connect", R7 NC "No Connect", T1 NC "No Connect", T2 NC "No Connect", T6 NC "No Connect", U6 NC "No Connect"

## IS61NLP25636A-200B2I-TR
designator U?
9 M Pipeline 'No Wait' State Bus SRAM, 256 K x 36, -40 to 85 degC, 119-Pin BGA (PBGA-119); Manufacturer: Integrated Silicon Solution Inc (ISSI); PartNumber: IS61NLP25636A-200B2I-TR; Density: 9M; Packing: Tape & Reel; Vcc: 3.3 V; VccQ: 2.5 / 3.3 V; DatasheetVersion: Rev. I; PackageVersion: Rev. D, 10/2008; PackageReference: PBGA-119; PackageDescription: 119-Pin 14 x 22 mm PBGA, Pitch 1.27 mm; Supplier 1: Mouser; Supplier Part Number 1: 870-61NLP25636A2B2IT; Organization: 256Kx36; Mounting Technology: Surface Mount; Code_JEDEC: MS-028; ComponentLink1Description: Manufacturer URL; ComponentLink1URL: http://www.issi.com/US/index.shtml; ComponentLink2Description: Datasheet; ComponentLink2URL: http://www.issi.com/WW/pdf/61NLP_NVP25636A_51218A.pdf; ComponentLink3Description: Package Specification; ComponentLink3URL: http://www.issi.com/WW/pdf/61NLP_NVP25636A_51218A.pdf
footprint ISSI-PBGA-119-14000X22000DE (BGA, 119-Balls, Body 22x14mm, Pitch 1.27mm)
part A pins: A2 A (in) "Address Input", A3 A (in) "Address Input", A5 A (in) "Address Input", A6 A (in) "Address Input", B2 CE2 (in) "Synchronous Chip Select", B3 A (in) "Address Input", B4 ADV (in) "Synchronous Burst Address Advance/Load", B5 A (in) "Address Input", B6 ~{CE2} (in) "Synchronous Chip Select", C2 A (in) "Address Input", C3 A (in) "Address Input", C5 A (in) "Address Input", C6 A (in) "Address Input", D1 DQc (io) "Data Input/Output", D2 DQPc (io) "Parity Data I/O", D6 DQPb (io) "Parity Data I/O", D7 DQb (io) "Data Input/Output", E1 DQc (io) "Data Input/Output", E2 DQc (io) "Data Input/Output", E4 ~{CE} (in) "Synchronous Chip Select", E6 DQb (io) "Data Input/Output", E7 DQb (io) "Data Input/Output", F2 DQc (io) "Data Input/Output", F4 ~{OE} (in) "Output Enable", F6 DQb (io) "Data Input/Output", G1 DQc (io) "Data Input/Output", G2 DQc (io) "Data Input/Output", G3 ~{BWc} (in) "Synchronous Byte Write Inputs", G4 A (in) "Address Input", G5 ~{BWb} (in) "Synchronous Byte Write Inputs", G6 DQb (io) "Data Input/Output", G7 DQb (io) "Data Input/Output", H1 DQc (io) "Data Input/Output", H2 DQc (io) "Data Input/Output", H4 ~{WE} (in) "Synchronous Read/Write Control Input", H6 DQb (io) "Data Input/Output", H7 DQb (io) "Data Input/Output", K1 DQd (io) "Data Input/Output", K2 DQd (io) "Data Input/Output", K4 CLK (in) "Synchronous Clock", K6 DQa (io) "Data Input/Output", K7 DQa (io) "Data Input/Output", L1 DQd (io) "Data Input/Output", L2 DQd (io) "Data Input/Output", L3 ~{BWd} (in) "Synchronous Byte Write Inputs", L5 ~{BWa} (in) "Synchronous Byte Write Inputs", L6 DQa (io) "Data Input/Output", L7 DQa (io) "Data Input/Output", M2 DQd (io) "Data Input/Output", M4 ~{CKE} (in) "Clock Enable", M6 DQa (io) "Data Input/Output", N1 DQd (io) "Data Input/Output", N2 DQd (io) "Data Input/Output", N4 A1 (in) "Synchronous Burst Address Input", N6 DQa (io) "Data Input/Output", N7 DQa (io) "Data Input/Output", P1 DQd (io) "Data Input/Output", P2 DQPd (io) "Parity Data I/O", P4 A0 (in) "Synchronous Burst Address Input", P6 DQPa (io) "Parity Data I/O", P7 DQa (io) "Data Input/Output", R2 A (in) "Address Input", R3 MODE (in) "Burst Sequence Selection", R6 A (in) "Address Input", T3 A (in) "Address Input", T4 A (in) "Address Input", T5 A (in) "Address Input", T7 ZZ (in) "Power Sleep Mode", U2 TMS (in) "JTAG Pin", U3 TDI (in) "JTAG Pin", U4 TCK (in) "JTAG Pin", U5 TDO (out) "JTAG Pin"
part B pins: A1 VDDQ (power) "Output Power Supply", A7 VDDQ (power) "Output Power Supply", C4 VDD (power) "Power Supply", D3 VSS (power) "Ground", D5 VSS (power) "Ground", E3 VSS (power) "Ground", E5 VSS (power) "Ground", F1 VDDQ (power) "Output Power Supply", F3 VSS (power) "Ground", F5 VSS (power) "Ground", F7 VDDQ (power) "Output Power Supply", H3 VSS (power) "Ground", H5 VSS (power) "Ground", J1 VDDQ (power) "Output Power Supply", J2 VDD (power) "Power Supply", J4 VDD (power) "Power Supply", J6 VDD (power) "Power Supply", J7 VDDQ (power) "Output Power Supply", K3 VSS (power) "Ground", K5 VSS (power) "Ground", M1 VDDQ (power) "Output Power Supply", M3 VSS (power) "Ground", M5 VSS (power) "Ground", M7 VDDQ (power) "Output Power Supply", N3 VSS (power) "Ground", N5 VSS (power) "Ground", P3 VSS (power) "Ground", P5 VSS (power) "Ground", R4 VDD (power) "Power Supply", U1 VDDQ (power) "Output Power Supply", U7 VDDQ (power) "Output Power Supply"
part C pins: A4 NC "No Connect", B1 NC "No Connect", B7 NC "No Connect", C1 NC "No Connect", C7 NC "No Connect", D4 NC "No Connect", J3 NC "No Connect", J5 NC "No Connect", L4 NC "No Connect", R1 NC "No Connect", R5 NC "No Connect", R7 NC "No Connect", T1 NC "No Connect", T2 NC "No Connect", T6 NC "No Connect", U6 NC "No Connect"

## IS61NLP25636A-200B2LI
designator U?
9 M Pipeline 'No Wait' State Bus SRAM, 256 K x 36, -40 to 85 degC, 119-Pin BGA (PBGA-119), Pb-free; Manufacturer: Integrated Silicon Solution Inc (ISSI); PartNumber: IS61NLP25636A-200B2LI; Density: 9M; Packing: Tray / Tube; Vcc: 3.3 V; VccQ: 2.5 / 3.3 V; DatasheetVersion: Rev. I; PackageVersion: Rev. D, 10/2008; PackageReference: PBGA-119; PackageDescription: 119-Pin 14 x 22 mm PBGA, Pitch 1.27 mm; Supplier 1: Mouser; Supplier Part Number 1: 870-61NLP25636A2B2LI; Organization: 256Kx36; RoHS: Pb-Free; Mounting Technology: Surface Mount; Code_JEDEC: MS-028; ComponentLink1Description: Manufacturer URL; ComponentLink1URL: http://www.issi.com/US/index.shtml; ComponentLink2Description: Datasheet; ComponentLink2URL: http://www.issi.com/WW/pdf/61NLP_NVP25636A_51218A.pdf; ComponentLink3Description: Package Specification; ComponentLink3URL: http://www.issi.com/WW/pdf/61NLP_NVP25636A_51218A.pdf
footprint ISSI-PBGA-119-14000X22000DE (BGA, 119-Balls, Body 22x14mm, Pitch 1.27mm)
part A pins: A2 A (in) "Address Input", A3 A (in) "Address Input", A5 A (in) "Address Input", A6 A (in) "Address Input", B2 CE2 (in) "Synchronous Chip Select", B3 A (in) "Address Input", B4 ADV (in) "Synchronous Burst Address Advance/Load", B5 A (in) "Address Input", B6 ~{CE2} (in) "Synchronous Chip Select", C2 A (in) "Address Input", C3 A (in) "Address Input", C5 A (in) "Address Input", C6 A (in) "Address Input", D1 DQc (io) "Data Input/Output", D2 DQPc (io) "Parity Data I/O", D6 DQPb (io) "Parity Data I/O", D7 DQb (io) "Data Input/Output", E1 DQc (io) "Data Input/Output", E2 DQc (io) "Data Input/Output", E4 ~{CE} (in) "Synchronous Chip Select", E6 DQb (io) "Data Input/Output", E7 DQb (io) "Data Input/Output", F2 DQc (io) "Data Input/Output", F4 ~{OE} (in) "Output Enable", F6 DQb (io) "Data Input/Output", G1 DQc (io) "Data Input/Output", G2 DQc (io) "Data Input/Output", G3 ~{BWc} (in) "Synchronous Byte Write Inputs", G4 A (in) "Address Input", G5 ~{BWb} (in) "Synchronous Byte Write Inputs", G6 DQb (io) "Data Input/Output", G7 DQb (io) "Data Input/Output", H1 DQc (io) "Data Input/Output", H2 DQc (io) "Data Input/Output", H4 ~{WE} (in) "Synchronous Read/Write Control Input", H6 DQb (io) "Data Input/Output", H7 DQb (io) "Data Input/Output", K1 DQd (io) "Data Input/Output", K2 DQd (io) "Data Input/Output", K4 CLK (in) "Synchronous Clock", K6 DQa (io) "Data Input/Output", K7 DQa (io) "Data Input/Output", L1 DQd (io) "Data Input/Output", L2 DQd (io) "Data Input/Output", L3 ~{BWd} (in) "Synchronous Byte Write Inputs", L5 ~{BWa} (in) "Synchronous Byte Write Inputs", L6 DQa (io) "Data Input/Output", L7 DQa (io) "Data Input/Output", M2 DQd (io) "Data Input/Output", M4 ~{CKE} (in) "Clock Enable", M6 DQa (io) "Data Input/Output", N1 DQd (io) "Data Input/Output", N2 DQd (io) "Data Input/Output", N4 A1 (in) "Synchronous Burst Address Input", N6 DQa (io) "Data Input/Output", N7 DQa (io) "Data Input/Output", P1 DQd (io) "Data Input/Output", P2 DQPd (io) "Parity Data I/O", P4 A0 (in) "Synchronous Burst Address Input", P6 DQPa (io) "Parity Data I/O", P7 DQa (io) "Data Input/Output", R2 A (in) "Address Input", R3 MODE (in) "Burst Sequence Selection", R6 A (in) "Address Input", T3 A (in) "Address Input", T4 A (in) "Address Input", T5 A (in) "Address Input", T7 ZZ (in) "Power Sleep Mode", U2 TMS (in) "JTAG Pin", U3 TDI (in) "JTAG Pin", U4 TCK (in) "JTAG Pin", U5 TDO (out) "JTAG Pin"
part B pins: A1 VDDQ (power) "Output Power Supply", A7 VDDQ (power) "Output Power Supply", C4 VDD (power) "Power Supply", D3 VSS (power) "Ground", D5 VSS (power) "Ground", E3 VSS (power) "Ground", E5 VSS (power) "Ground", F1 VDDQ (power) "Output Power Supply", F3 VSS (power) "Ground", F5 VSS (power) "Ground", F7 VDDQ (power) "Output Power Supply", H3 VSS (power) "Ground", H5 VSS (power) "Ground", J1 VDDQ (power) "Output Power Supply", J2 VDD (power) "Power Supply", J4 VDD (power) "Power Supply", J6 VDD (power) "Power Supply", J7 VDDQ (power) "Output Power Supply", K3 VSS (power) "Ground", K5 VSS (power) "Ground", M1 VDDQ (power) "Output Power Supply", M3 VSS (power) "Ground", M5 VSS (power) "Ground", M7 VDDQ (power) "Output Power Supply", N3 VSS (power) "Ground", N5 VSS (power) "Ground", P3 VSS (power) "Ground", P5 VSS (power) "Ground", R4 VDD (power) "Power Supply", U1 VDDQ (power) "Output Power Supply", U7 VDDQ (power) "Output Power Supply"
part C pins: A4 NC "No Connect", B1 NC "No Connect", B7 NC "No Connect", C1 NC "No Connect", C7 NC "No Connect", D4 NC "No Connect", J3 NC "No Connect", J5 NC "No Connect", L4 NC "No Connect", R1 NC "No Connect", R5 NC "No Connect", R7 NC "No Connect", T1 NC "No Connect", T2 NC "No Connect", T6 NC "No Connect", U6 NC "No Connect"

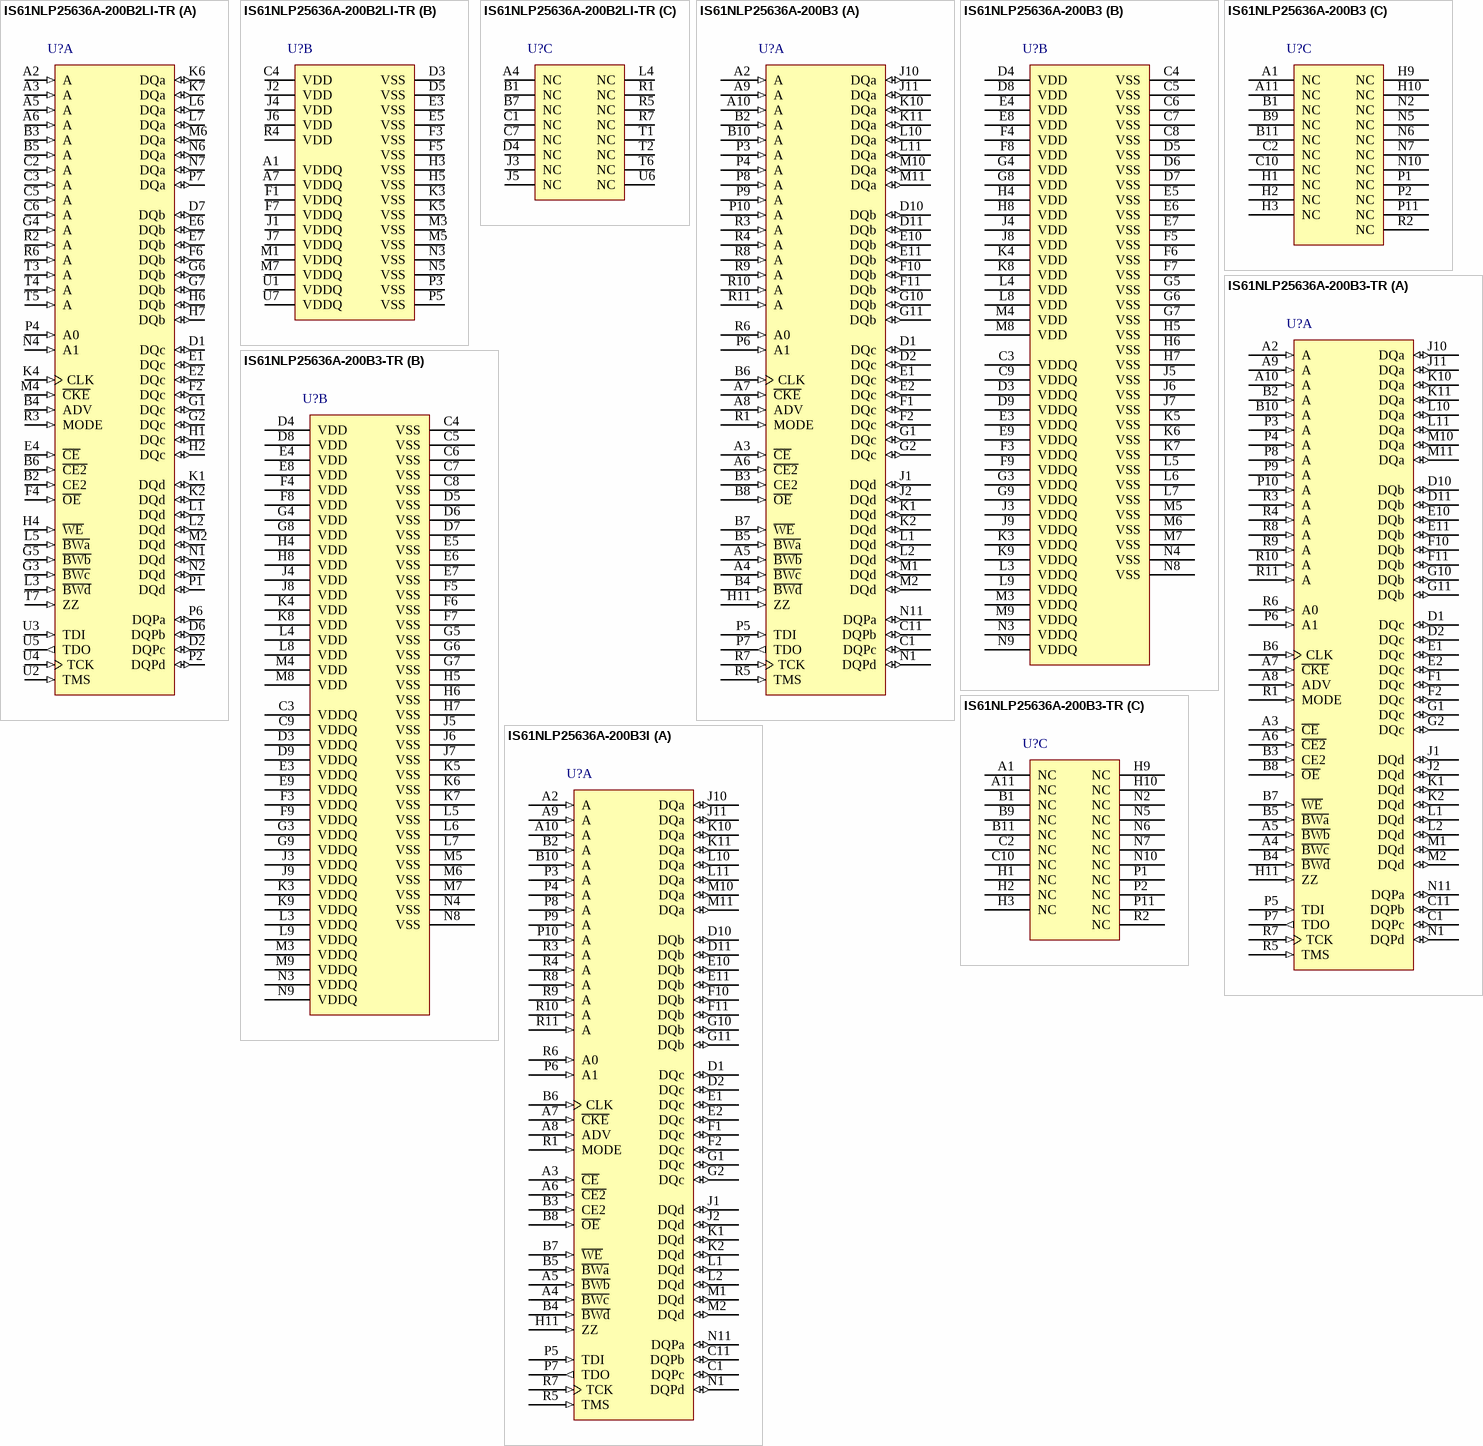
[diagram p100: symbols IS61NLP25636A-200B2LI-TR to IS61NLP25636A-200B3I]